# EAGLE library part LT3115-1 (library dubec)
40V, 2A Synchronous Buck-Boost DC/DC Converter
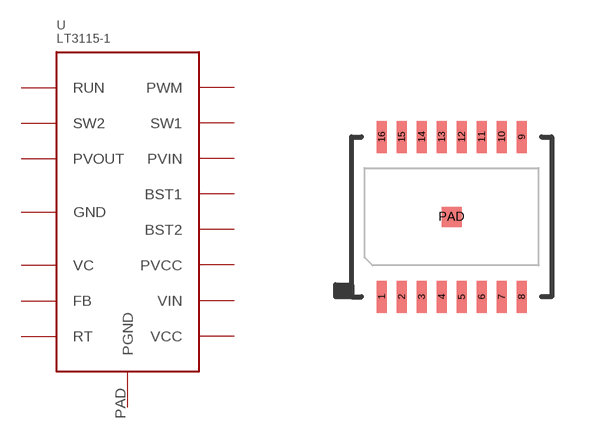
[diagram p3: symbol with the pads of DFN-16; footprint DFN-16]

Designator prefix -

## LT3115-1IDHD (DIGIKEY_PART_#: LTC3115IDHD-2#PBF-ND; EURO: 185.41/25; MANUFACTURER: Linear Technology; MFG_PART_#: LTC3115IDHD-1#PBF; TEMP: -40°C ~ 125°C)  [DFN-16]
1  RUN  in
2  SW2  pas
3  PVOUT  pwr
4  GND  pas
5  GND  pas
6  VC  pas
7  FB  in
8  RT  in
9  VCC  pas
10  VIN  pas
11  PVCC  pas
12  BST2  pas
13  BST1  pas
14  PVIN  pas
15  SW1  pas
16  PWM  in
PAD  PGND  pas

## Footprint DFN-16 (pad centres in mm)
smd 0.25 x 0.8: 1 -1.75,-2; 2 -1.25,-2; 3 -0.75,-2; 4 -0.25,-2; 5 0.25,-2; 6 0.75,-2; 7 1.25,-2; 8 1.75,-2; 9 1.75,2; 10 1.25,2; 11 0.75,2; 12 0.25,2; 13 -0.25,2; 14 -0.75,2; 15 -1.25,2; 16 -1.75,2
smd 0.5 x 0.5: PAD 0,0